# Altium schematic symbol library TS3DV20812.SchLib: 1 symbol
Pins are listed as number, name and electrical type; pins without a type are passive.

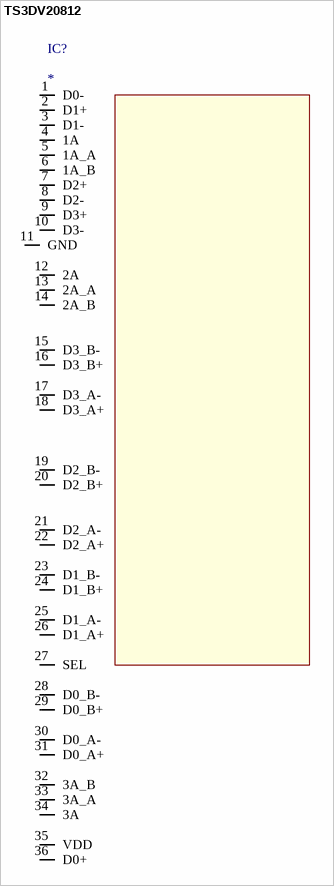
[diagram p0: symbol TS3DV20812]

## TS3DV20812
designator IC?
ID: TS3DV20812RHHR; PDF: http://www.ti.com/lit/ds/symlink/ts3dv20812.pdf; BUY_LINK: http://www.digikey.com/product-detail/en/texas-instruments/TS3DV20812RHHR/296-27631-1-ND/2345387; PRICE: 1.42000
pins: 1 D0-, 2 D1+, 3 D1-, 4 1A, 5 1A_A, 6 1A_B, 7 D2+, 8 D2-, 9 D3+, 10 D3-, 11 GND, 12 2A, 13 2A_A, 14 2A_B, 15 D3_B-, 16 D3_B+, 17 D3_A-, 18 D3_A+, 19 D2_B-, 20 D2_B+, 21 D2_A-, 22 D2_A+, 23 D1_B-, 24 D1_B+, 25 D1_A-, 26 D1_A+, 27 SEL, 28 D0_B-, 29 D0_B+, 30 D0_A-, 31 D0_A+, 32 3A_B, 33 3A_A, 34 3A, 35 VDD, 36 D0+